# EAGLE library part NCP2890 (library onsemi)
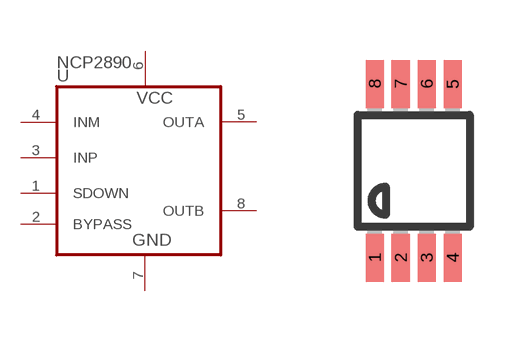
[diagram p0: symbol with the pads of MICRO8; footprint MICRO8]

Designator prefix -

## NCP2890  [MICRO8]
1  SDOWN  in
2  BYPASS  pwr
3  INP  in
4  INM  in
5  OUTA  out
6  VCC  pwr
7  GND  pwr
8  OUTB  out

## Footprint MICRO8 (pad centres in mm)
smd 0.45 x 1.2: 1 -0.975,-2.175; 2 -0.325,-2.175; 3 0.325,-2.175; 4 0.975,-2.175; 5 0.975,2.175; 6 0.325,2.175; 7 -0.325,2.175; 8 -0.975,2.175